# EAGLE library part AD5175BRMZ (library parts)
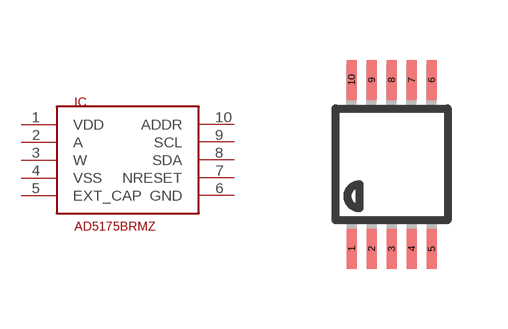
[diagram p12: symbol with the pads of MSOP10; footprint MSOP10]

Designator prefix IC

## AD5175BRMZ  [MSOP10]
1  VDD
2  A
3  W
4  VSS
5  EXT_CAP
6  GND
7  NRESET
8  SDA
9  SCL
10  ADDR

## Footprint MSOP10 (pad centres in mm)
10-Lead Mini Small Outline Package [MSOP] (RM-10) Source: http://www.analog.com/UploadedFiles/Data_Sheets/35641221898805SSM2167_b.pdf COMPLIANT TO JEDEC STANDARDS MO-187BA
smd 0.25 x 1: 1 -1,-2.113; 2 -0.5,-2.113; 3 0,-2.113; 4 0.5,-2.113; 5 1,-2.113; 6 1,2.113; 7 0.5,2.113; 8 0,2.113; 9 -0.5,2.113; 10 -1,2.113